# Altium integrated library B3P-VH_LF__SN_.IntLib: 1 symbol
Pins are listed as number, name and electrical type; pins without a type are passive.

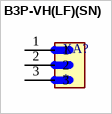
[diagram p0: symbol B3P-VH(LF)(SN)]

## B3P-VH(LF)(SN)
designator XA?
Connector Header Through Hole 3 position 0.156 (3.96mm); MF: JST Sales; MP: B3P-VH(LF)(SN); Value: *; Check_prices: https://www.snapeda.com/parts/B3P-VH(LF)(SN)/JST+Sales+America+Inc./view-part/?ref=eda; SnapEDA_Link: https://www.snapeda.com/parts/B3P-VH(LF)(SN)/JST+Sales+America+Inc./view-part/?ref=snap; Availability: In Stock; Purchase-URL: https://pricing.snapeda.com/search/part/B3P-VH(LF)(SN)/?ref=eda; Package: None; Price: None
footprint JST_B3P-VH(LF)(SN)
pins: 1, 2, 3